# Altium footprint library TO-247-3(BEND2).PcbLib: 1 footprints
Each footprint in its own frame and in the unit in brackets; x right, y up, seen from the top. Pads: shape width x height; smd on the part's side, far side on the other; paste and mask are expansions set on the pad; w line width, h text height; cw(c..) or ccw(c..) is an arc to the next point about the centre after c.
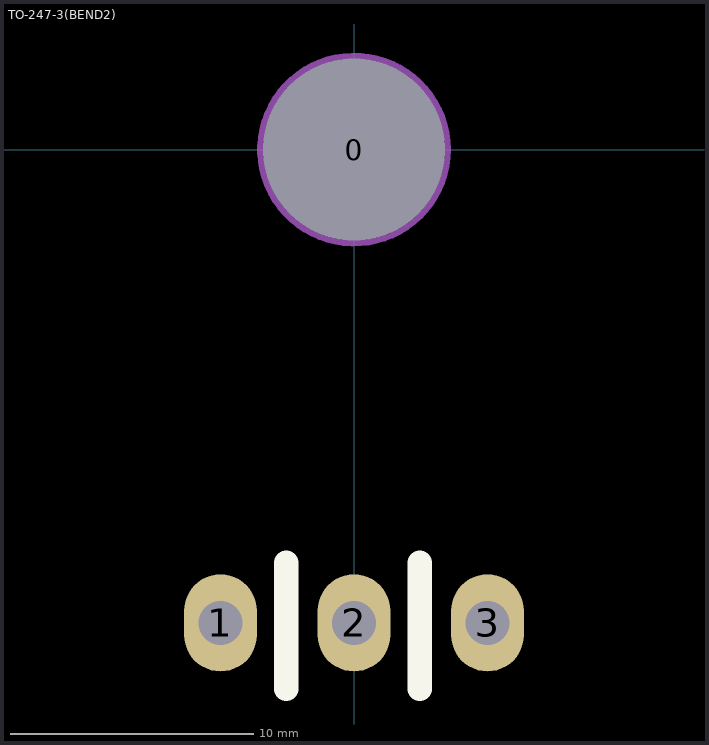
[diagram p0: the footprint, top view; thin cyan lines are the x and y axes]

## TO-247-3(BEND2) [mm] "TO-247-3(BEND2)"
pads (4):
  round 1.524 hole 7.5: 0(0,0)
  oval 3x4 hole 1.8: 1(-5.5,-19.5) 2(0,-19.5) 3(5.5,-19.5)
Top Overlay:
  lines w1: -2.794,-22.225 -2.794,-17.018 ; 2.706,-22.225 2.706,-17.018
Bottom Overlay:
  lines w1: -2.794,-22.352 -2.794,-16.891 ; 2.706,-22.352 2.706,-16.891
Mechanical 1:
  circle w0.254: c0,0 r3.863
3D body "TO-247H.STEP": height 1.9, standoff -10, extent -7.75,-19.9 7.75,5.5